# EAGLE library part STM32F373RXT (library STM32F3xx)
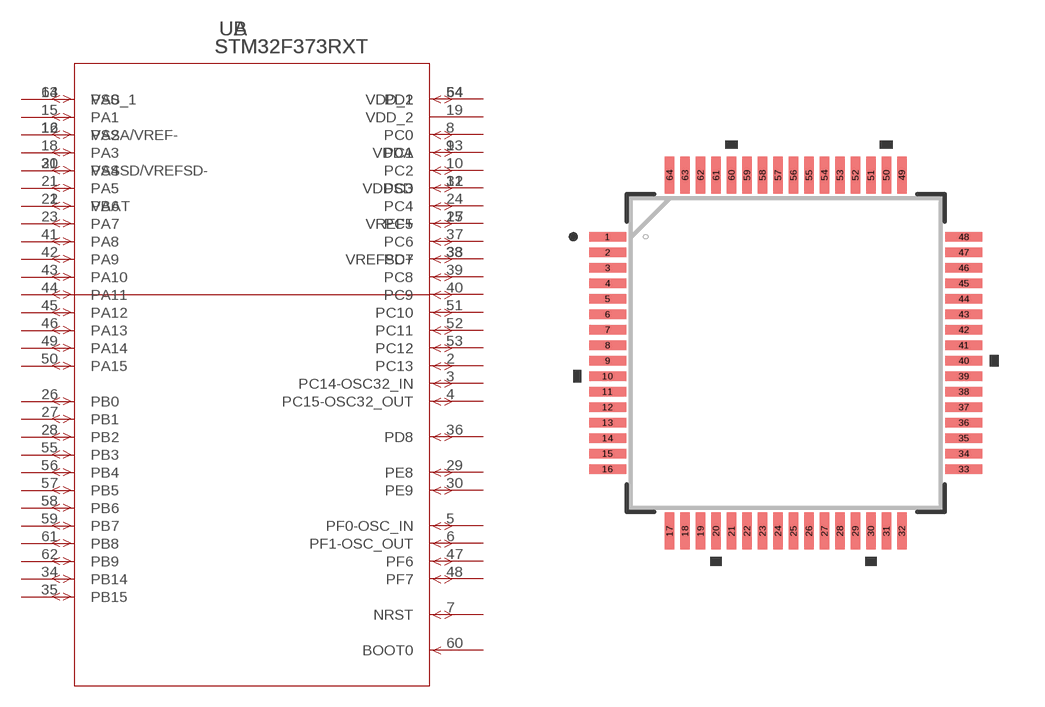
[diagram p24: symbol with the pads of LQFP64-10X10MM; footprint LQFP64-10X10MM]

Designator prefix U; gates A=STM32F373RXT_1 B=STM32F373RXT

## STM32F373RXT (COPYRIGHT: Copyright C 2016 Accelerated Designs. All rights reserved; MANUFACTURER_PART_NUMBER: stm32f373rxt; VENDOR: STMicroelectronics)  [LQFP64-10X10MM]
1  B:VBAT  pwr
2  A:PC13
3  A:PC14-OSC32_IN
4  A:PC15-OSC32_OUT
5  A:PF0-OSC_IN
6  A:PF1-OSC_OUT
7  A:NRST
8  A:PC0
9  A:PC1
10  A:PC2
11  A:PC3
12  B:VSSA/VREF-  pwr
13  B:VDDA  pwr
14  A:PA0
15  A:PA1
16  A:PA2
17  B:VREF+  pwr
18  A:PA3
19  B:VDD_2  pwr
20  A:PA4
21  A:PA5
22  A:PA6
23  A:PA7
24  A:PC4
25  A:PC5
26  A:PB0
27  A:PB1
28  A:PB2
29  A:PE8
30  A:PE9
31  B:VSSSD/VREFSD-  pwr
32  B:VDDSD  pwr
33  B:VREFSD+  pwr
34  A:PB14
35  A:PB15
36  A:PD8
37  A:PC6
38  A:PC7
39  A:PC8
40  A:PC9
41  A:PA8
42  A:PA9
43  A:PA10
44  A:PA11
45  A:PA12
46  A:PA13
47  A:PF6
48  A:PF7
49  A:PA14
50  A:PA15
51  A:PC10
52  A:PC11
53  A:PC12
54  A:PD2
55  A:PB3
56  A:PB4
57  A:PB5
58  A:PB6
59  A:PB7
60  A:BOOT0  in
61  A:PB8
62  A:PB9
63  B:VSS_1  pwr
64  B:VDD_1  pwr

## Footprint LQFP64-10X10MM (pad centres in mm)
smd 1.194 x 0.305: 1 -5.75,3.75; 2 -5.75,3.25; 3 -5.75,2.75; 4 -5.75,2.25; 5 -5.75,1.75; 6 -5.75,1.25; 7 -5.75,0.75; 8 -5.75,0.25; 9 -5.75,-0.25; 10 -5.75,-0.75; 11 -5.75,-1.25; 12 -5.75,-1.75; 13 -5.75,-2.25; 14 -5.75,-2.75; 15 -5.75,-3.25; 16 -5.75,-3.75; 33 5.75,-3.75; 34 5.75,-3.25; 35 5.75,-2.75; 36 5.75,-2.25; 37 5.75,-1.75; 38 5.75,-1.25; 39 5.75,-0.75; 40 5.75,-0.25; 41 5.75,0.25; 42 5.75,0.75; 43 5.75,1.25; 44 5.75,1.75; 45 5.75,2.25; 46 5.75,2.75; 47 5.75,3.25; 48 5.75,3.75
smd 0.305 x 1.194: 17 -3.75,-5.75; 18 -3.25,-5.75; 19 -2.75,-5.75; 20 -2.25,-5.75; 21 -1.75,-5.75; 22 -1.25,-5.75; 23 -0.75,-5.75; 24 -0.25,-5.75; 25 0.25,-5.75; 26 0.75,-5.75; 27 1.25,-5.75; 28 1.75,-5.75; 29 2.25,-5.75; 30 2.75,-5.75; 31 3.25,-5.75; 32 3.75,-5.75; 49 3.75,5.75; 50 3.25,5.75; 51 2.75,5.75; 52 2.25,5.75; 53 1.75,5.75; 54 1.25,5.75; 55 0.75,5.75; 56 0.25,5.75; 57 -0.25,5.75; 58 -0.75,5.75; 59 -1.25,5.75; 60 -1.75,5.75; 61 -2.25,5.75; 62 -2.75,5.75; 63 -3.25,5.75; 64 -3.75,5.75